# EAGLE library part RG240128B (library RG240128B)
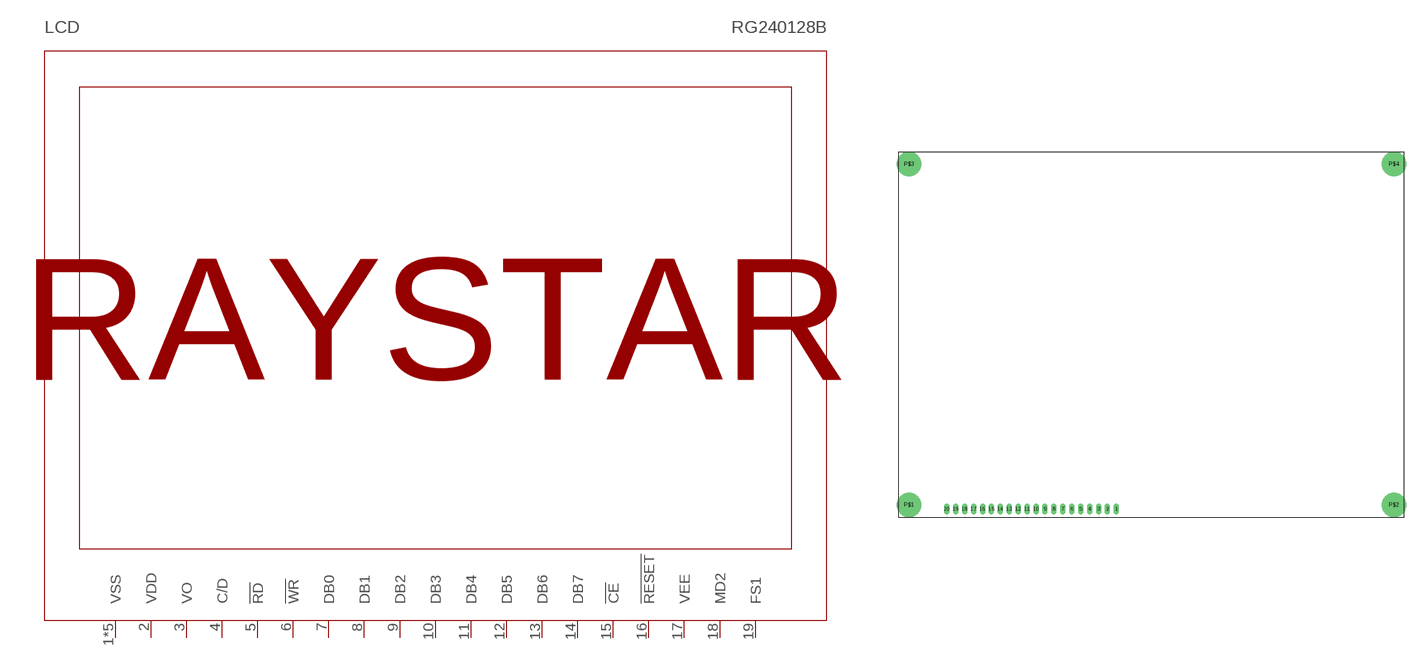
[diagram p0: symbol with the pads of DISP; footprint DISP]

Designator prefix LCD

## RG240128B  [DISP]
1  VSS
2  VDD
3  VO
4  C/D
5  !RD!
6  !WR!
7  DB0
8  DB1
9  DB2
10  DB3
11  DB4
12  DB5
13  DB6
14  DB7
15  !CE!
16  !RESET!
17  VEE
18  MD2
19  FS1
P$1  VSS
P$2  VSS
P$3  VSS
P$4  VSS

## Footprint DISP (pad centres in mm)
drill 1.016 long: 1 62,2.3; 2 59.46,2.3; 3 56.92,2.3; 4 54.38,2.3; 5 51.84,2.3; 6 49.3,2.3; 7 46.76,2.3; 8 44.22,2.3; 9 41.68,2.3; 10 39.14,2.3; 11 36.6,2.3; 12 34.06,2.3; 13 31.52,2.3; 14 28.98,2.3; 15 26.44,2.3; 16 23.9,2.3; 17 21.36,2.3; 18 18.82,2.3; 19 16.28,2.3; 20 13.74,2.3
drill 3.5 pad 7: P$1 3,3.5; P$2 141,3.5; P$3 3,100.5; P$4 141,100.5